# Altium schematic symbol library AD9914.SchLib: 1 symbol
Pins are listed as number, name and electrical type; pins without a type are passive.

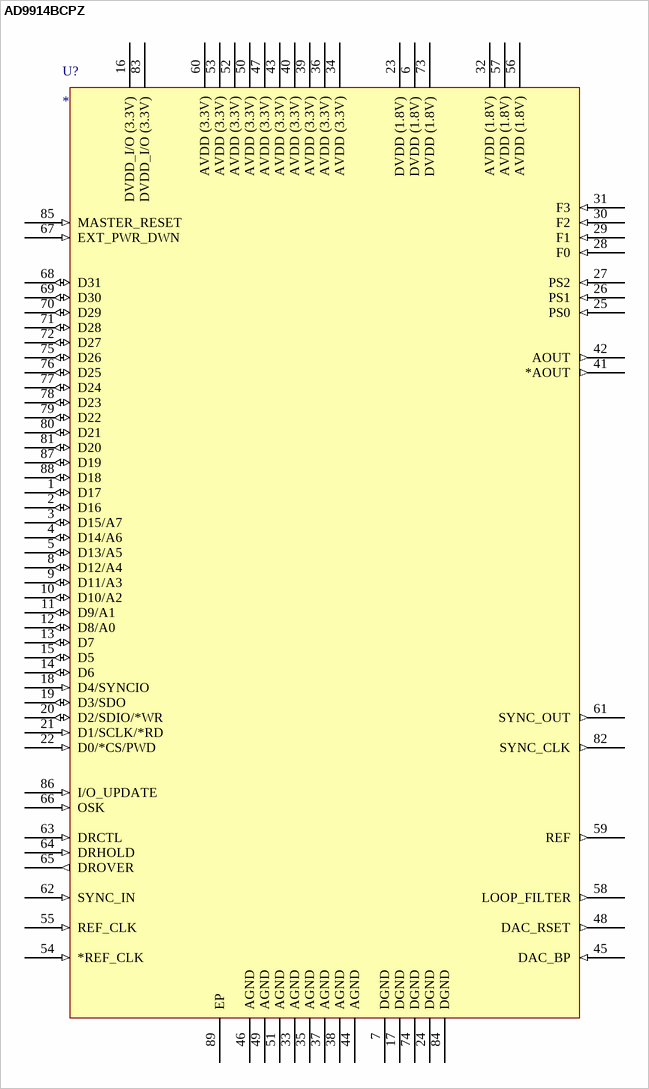
[diagram p0: symbol AD9914BCPZ]

## AD9914BCPZ
designator U?
Imported; RefDes: RefDes; Type: DEV; Value: Value
pins: 1 D17 (io), 2 D16 (io), 3 D15/A7 (io), 4 D14/A6 (io), 5 D13/A5 (io), 6 DVDD (1.8V) (power), 7 DGND (power), 8 D12/A4 (io), 9 D11/A3 (io), 10 D10/A2 (io), 11 D9/A1 (io), 12 D8/A0 (io), 13 D7 (io), 14 D6 (io), 15 D5 (io), 16 DVDD_I/O (3.3V) (power), 17 DGND (power), 18 D4/SYNCIO (in), 19 D3/SDO (io), 20 D2/SDIO/*WR (io), 21 D1/SCLK/*RD (in), 22 D0/*CS/PWD (in), 23 DVDD (1.8V) (power), 24 DGND (power), 25 PS0 (in), 26 PS1 (in), 27 PS2 (in), 28 F0 (in), 29 F1 (in), 30 F2 (in), 31 F3 (in), 32 AVDD (1.8V) (power), 33 AGND (power), 34 AVDD (3.3V) (power), 35 AGND (power), 36 AVDD (3.3V) (power), 37 AGND (power), 38 AGND (power), 39 AVDD (3.3V) (power), 40 AVDD (3.3V) (power), 41 *AOUT (out), 42 AOUT (out), 43 AVDD (3.3V) (power), 44 AGND (power), 45 DAC_BP (in), 46 AGND (power), 47 AVDD (3.3V) (power), 48 DAC_RSET (out), 49 AGND (power), 50 AVDD (3.3V) (power), 51 AGND (power), 52 AVDD (3.3V) (power), 53 AVDD (3.3V) (power), 54 *REF_CLK (in), 55 REF_CLK (in), 56 AVDD (1.8V) (power), 57 AVDD (1.8V) (power), 58 LOOP_FILTER (out), 59 REF (out), 60 AVDD (3.3V) (power), 61 SYNC_OUT (out), 62 SYNC_IN (in), 63 DRCTL (in), 64 DRHOLD (in), 65 DROVER (out), 66 OSK (in), 67 EXT_PWR_DWN (in), 68 D31 (io), 69 D30 (io), 70 D29 (io), 71 D28 (io), 72 D27 (io), 73 DVDD (1.8V) (power), 74 DGND (power), 75 D26 (io), 76 D25 (io), 77 D24 (io), 78 D23 (io), 79 D22 (io), 80 D21 (io), 81 D20 (io), 82 SYNC_CLK (out), 83 DVDD_I/O (3.3V) (power), 84 DGND (power), 85 MASTER_RESET (in), 86 I/O_UPDATE (in), 87 D19 (io), 88 D18 (io), 89 EP (power)